# Altium schematic symbol library LTC2862IS8-1.SchLib: 1 symbol
Pins are listed as number, name and electrical type; pins without a type are passive.

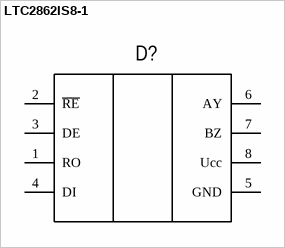
[diagram p0: symbol LTC2862IS8-1]

## LTC2862IS8-1
designator D?
pins: 1 RO, 2 ~{RE}, 3 DE, 4 DI, 5 GND, 6 AY, 7 BZ, 8 Ucc